# EAGLE library part AS5050 (library parts_servo)
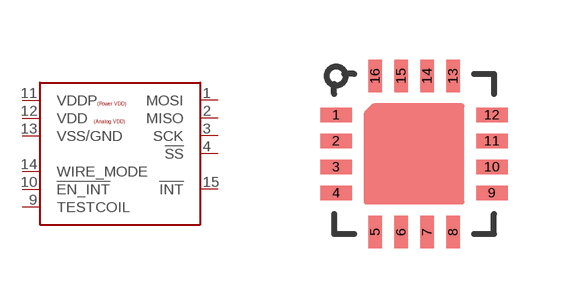
[diagram p4: symbol with the pads of QFN16_4X4; footprint QFN16_4X4]

Designator prefix -

## AS5050  [QFN16_4X4]
1  MOSI
2  MISO
3  SCK
4  !SS
9  TESTCOIL
10  !EN_INT
11  VDDP
12  VDD
13  VSS/GND
14  WIRE_MODE
15  !INT

## Footprint QFN16_4X4 (pad centres in mm)
smd 0.8 x 0.35: 1 -1.95,0.975; 2 -1.95,0.325; 3 -1.95,-0.325; 4 -1.95,-0.975; 9 1.95,-0.975; 10 1.95,-0.325; 11 1.95,0.325; 12 1.95,0.975
smd 0.35 x 0.8: 5 -0.975,-1.95; 6 -0.325,-1.95; 7 0.325,-1.95; 8 0.975,-1.95; 13 0.975,1.95; 14 0.325,1.95; 15 -0.325,1.95; 16 -0.975,1.95